# Altium footprint library Mechanical_3D.PcbLib: 98 footprints (part 5 of 7)
Each footprint in its own frame and in the unit in brackets; x right, y up, seen from the top. Pads: shape width x height; smd on the part's side, far side on the other; paste and mask are expansions set on the pad; w line width, h text height; cw(c..) or ccw(c..) is an arc to the next point about the centre after c.
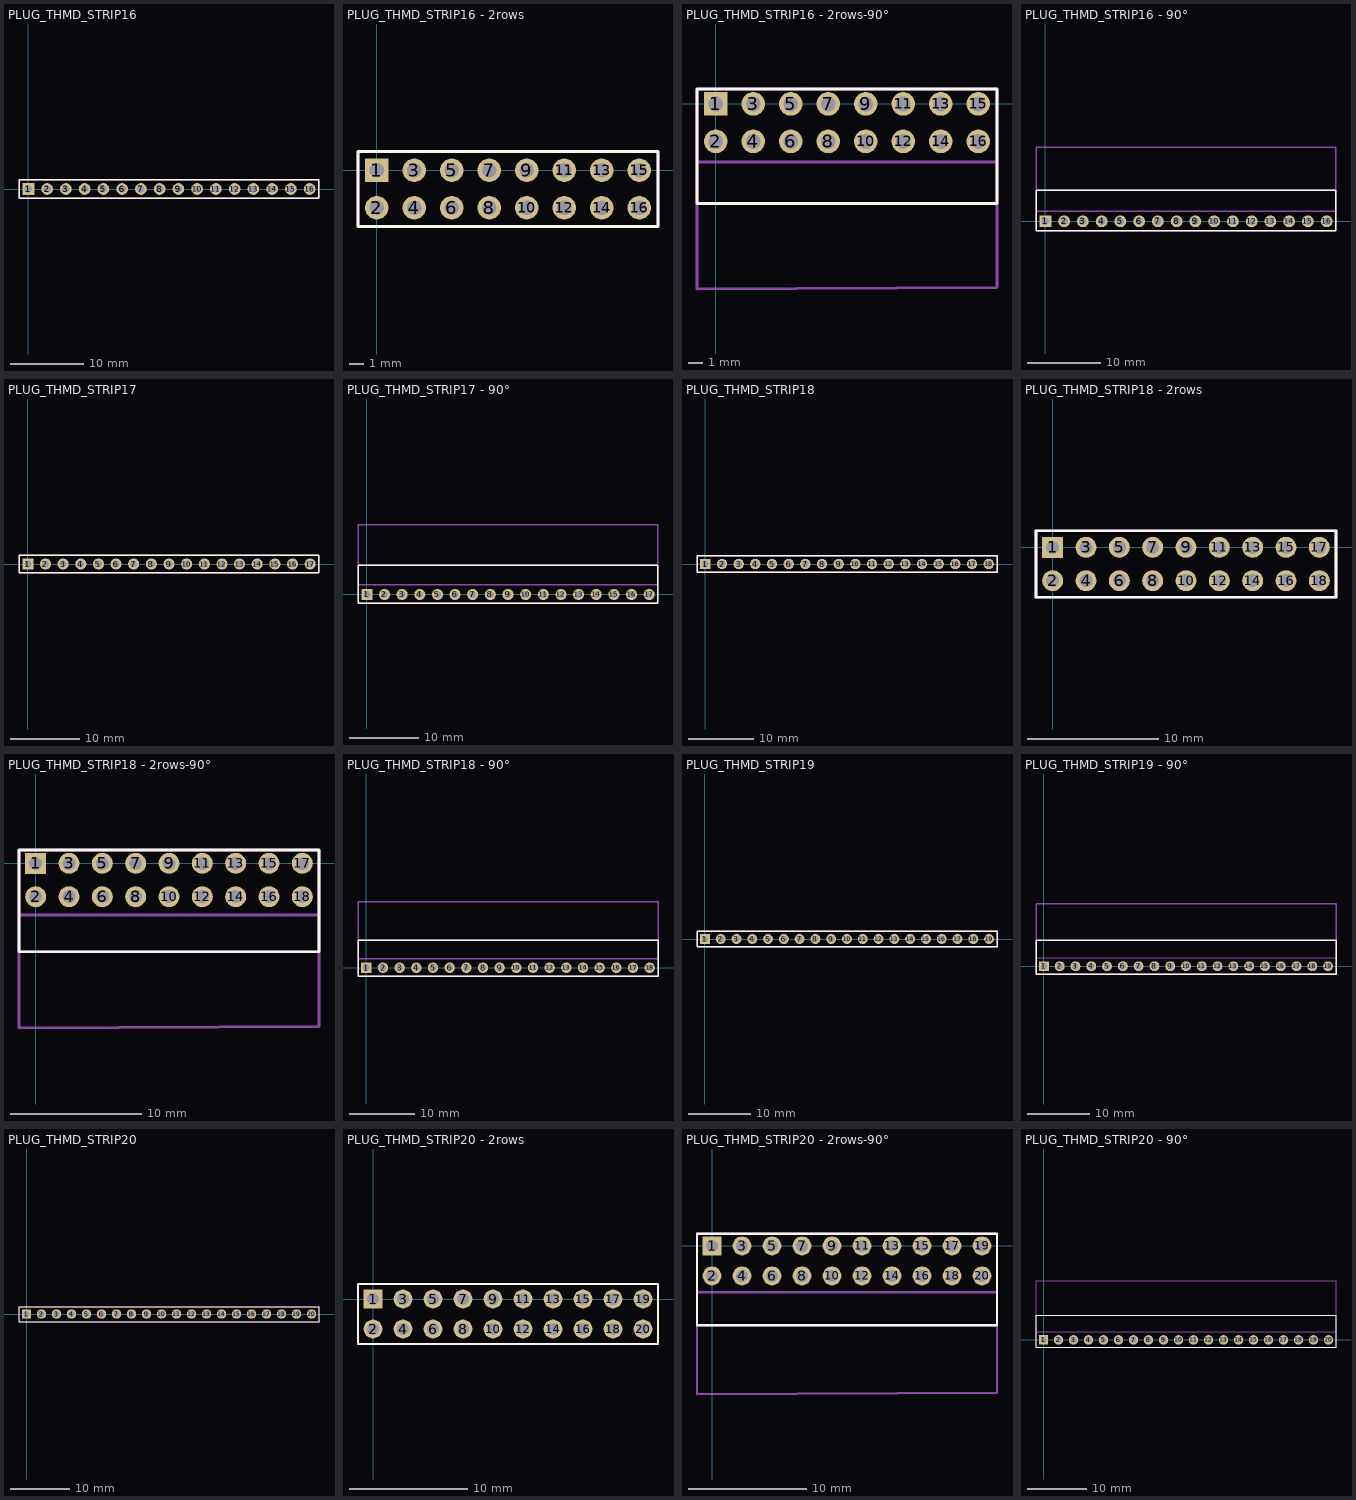
[diagram p4: the footprints below, top view; thin cyan lines are the x and y axes]

## PLUG_THMD_STRIP16 [mm]
pads (16):
  rect 1.6x1.6 / inner round 1.524 / far side rect 1.6x1.6 hole 1 paste+0 mask+0: 1(0,0)
  round 1.6 / inner round 1.524 / far side round 1.6 hole 1 paste+0 mask+0: 2(2.54,0) 3(5.08,0) 4(7.62,0) 5(10.16,0) 6(12.7,0) 7(15.24,0) 8(17.78,0) 9(20.32,0) 10(22.86,0) 11(25.4,0) 12(27.94,0) 13(30.48,0) 14(33.02,0) 15(35.56,0) 16(38.1,0)
Top Overlay:
  lines w0.203: -1.27,-1.27 -1.27,1.27 39.37,1.27 39.37,-1.27 -1.27,-1.27
Mechanical 13:
  lines w0.203: -1.27,-1.27 -1.27,1.27 39.37,1.27 39.37,-1.27 -1.27,-1.27
  text "1" at -2.156,-0.448 h0.95
3D body "Stripline_1.stp": height 8.57, standoff -2.97, extent 36.83,-1.27 39.37,1.27
3D body "Stripline_1.stp": height 8.57, standoff -2.97, extent 29.21,-1.27 31.75,1.27
3D body "Stripline_1.stp": height 8.57, standoff -2.97, extent 19.05,-1.27 21.59,1.27
3D body "Stripline_1.stp": height 8.57, standoff -2.97, extent 13.97,-1.27 16.51,1.27
3D body "Stripline_1.stp": height 8.57, standoff -2.97, extent 8.89,-1.27 11.43,1.27
3D body "Stripline_1.stp": height 8.57, standoff -2.97, extent 6.35,-1.27 8.89,1.27
3D body "Stripline_1.stp": height 8.57, standoff -2.97, extent 3.81,-1.27 6.35,1.27
3D body "Stripline_1.stp": height 8.57, standoff -2.97, extent 1.27,-1.27 3.81,1.27
3D body "Stripline_1.stp": height 8.57, standoff -2.97, extent -1.27,-1.27 1.27,1.27
3D body "Stripline_1.stp": height 8.57, standoff -2.97, extent 11.43,-1.27 13.97,1.27
3D body "Stripline_1.stp": height 8.57, standoff -2.97, extent 16.51,-1.27 19.05,1.27
3D body "Stripline_1.stp": height 8.57, standoff -2.97, extent 21.59,-1.27 24.13,1.27
3D body "Stripline_1.stp": height 8.57, standoff -2.97, extent 24.13,-1.27 26.67,1.27
3D body "Stripline_1.stp": height 8.57, standoff -2.97, extent 26.67,-1.27 29.21,1.27
3D body "Stripline_1.stp": height 8.57, standoff -2.97, extent 31.75,-1.27 34.29,1.27
3D body "Stripline_1.stp": height 8.57, standoff -2.97, extent 34.29,-1.27 36.83,1.27

## PLUG_THMD_STRIP16 - 2rows [mm]
pads (16):
  rect 1.6x1.6 / inner round 1.524 / far side rect 1.6x1.6 hole 1 paste+0 mask+0: 1(0,0)
  round 1.6 / inner round 1.524 / far side round 1.6 hole 1 paste+0 mask+0: 2(0,-2.54) 3(2.54,0) 4(2.54,-2.54) 5(5.08,0) 6(5.08,-2.54) 7(7.62,0) 8(7.62,-2.54) 9(10.16,0) 10(10.16,-2.54) 11(12.7,0) 12(12.7,-2.54) 13(15.24,0) 14(15.24,-2.54) 15(17.78,0) 16(17.78,-2.54)
Top Overlay:
  lines w0.203: -1.27,-3.81 -1.27,1.27 19.05,1.27 19.05,-3.81 -1.27,-3.81
Mechanical 13:
  lines w0.203: -1.27,-3.81 -1.27,1.27 19.05,1.27 19.05,-3.81 -1.27,-3.81
  text "1" at -2.156,-0.448 h0.95
3D body "Stripline_2row.stp": height 8.57, standoff -2.97, extent 16.51,-3.81 19.05,1.27
3D body "Stripline_2row.stp": height 8.57, standoff -2.97, extent 11.43,-3.81 13.97,1.27
3D body "Stripline_2row.stp": height 8.57, standoff -2.97, extent 8.89,-3.81 11.43,1.27
3D body "Stripline_2row.stp": height 8.57, standoff -2.97, extent 3.81,-3.81 6.35,1.27
3D body "Stripline_2row.stp": height 8.57, standoff -2.97, extent -1.27,-3.81 1.27,1.27
3D body "Stripline_2row.stp": height 8.57, standoff -2.97, extent 1.27,-3.81 3.81,1.27
3D body "Stripline_2row.stp": height 8.57, standoff -2.97, extent 6.35,-3.81 8.89,1.27
3D body "Stripline_2row.stp": height 8.57, standoff -2.97, extent 13.97,-3.81 16.51,1.27

## PLUG_THMD_STRIP16 - 2rows-90° [mm]
pads (16):
  rect 1.6x1.6 / inner round 1.524 / far side rect 1.6x1.6 hole 1 paste+0 mask+0: 1(0,0)
  round 1.6 / inner round 1.524 / far side round 1.6 hole 1 paste+0 mask+0: 2(0,-2.54) 3(2.54,0) 4(2.54,-2.54) 5(5.08,0) 6(5.08,-2.54) 7(7.62,0) 8(7.62,-2.54) 9(10.16,0) 10(10.16,-2.54) 11(12.7,0) 12(12.7,-2.54) 13(15.24,0) 14(15.24,-2.54) 15(17.78,0) 16(17.78,-2.54)
Top Overlay:
  lines w0.203: -1.27,-6.731 19.05,-6.731 19.05,1.016 -1.27,1.016 -1.27,-6.731
Mechanical 13:
  lines w0.2: -1.27,-6.731 -1.27,-3.937 19.05,-3.937 19.05,-6.731 -1.27,-6.731
  text "1" at -2.156,-0.448 h0.95
Mechanical 15:
  lines w0.203: -1.27,-12.548 19.05,-12.446 19.05,1.016 -1.27,1.016 -1.27,-12.548
3D body "Stripline_2row90_deg.stp": height 5.14, standoff -2.94, extent 16.51,-12.57 19.05,0.33
3D body "Stripline_2row90_deg.stp": height 5.14, standoff -2.94, extent 13.97,-12.57 16.51,0.33
3D body "Stripline_2row90_deg.stp": height 5.14, standoff -2.94, extent 11.43,-12.57 13.97,0.33
3D body "Stripline_2row90_deg.stp": height 5.14, standoff -2.94, extent 6.35,-12.57 8.89,0.33
3D body "Stripline_2row90_deg.stp": height 5.14, standoff -2.94, extent -1.27,-12.57 1.27,0.33
3D body "Stripline_2row90_deg.stp": height 5.14, standoff -2.94, extent 1.27,-12.57 3.81,0.33
3D body "Stripline_2row90_deg.stp": height 5.14, standoff -2.94, extent 3.81,-12.57 6.35,0.33
3D body "Stripline_2row90_deg.stp": height 5.14, standoff -2.94, extent 8.89,-12.57 11.43,0.33

## PLUG_THMD_STRIP16 - 90° [mm]
pads (16):
  rect 1.6x1.6 / inner round 1.524 / far side rect 1.6x1.6 hole 1 paste+0 mask+0: 1(0,0)
  round 1.6 / inner round 1.524 / far side round 1.6 hole 1 paste+0 mask+0: 2(2.54,0) 3(5.08,0) 4(7.62,0) 5(10.16,0) 6(12.7,0) 7(15.24,0) 8(17.78,0) 9(20.32,0) 10(22.86,0) 11(25.4,0) 12(27.94,0) 13(30.48,0) 14(33.02,0) 15(35.56,0) 16(38.1,0)
Top Overlay:
  lines w0.203: -1.27,1.27 -1.27,-1.27 ; 3.81,-1.27 -1.27,-1.27 ; -1.27,-1.27 -1.27,4.191 39.37,4.191 39.37,-1.27 -1.27,-1.27
Mechanical 13:
  lines w0.2: -1.27,1.397 39.37,1.397 39.37,4.191 -1.27,4.191 -1.27,1.397
  text "1" at -2.156,-0.448 h0.95
Mechanical 15:
  lines w0.203: -1.27,-1.27 -1.27,10.033 39.37,10.033 39.37,-1.27 -1.27,-1.27
3D body "Stripline_1row90_deg.stp": height 2.54, standoff -3, extent 36.83,-0.354 39.37,10.006
3D body "Stripline_1row90_deg.stp": height 2.54, standoff -3, extent 34.29,-0.354 36.83,10.006
3D body "Stripline_1row90_deg.stp": height 2.54, standoff -3, extent 24.13,-0.354 26.67,10.006
3D body "Stripline_1row90_deg.stp": height 2.54, standoff -3, extent 16.51,-0.354 19.05,10.006
3D body "Stripline_1row90_deg.stp": height 2.54, standoff -3, extent 13.97,-0.354 16.51,10.006
3D body "Stripline_1row90_deg.stp": height 2.54, standoff -3, extent 11.43,-0.354 13.97,10.006
3D body "Stripline_1row90_deg.stp": height 2.54, standoff -3, extent 8.89,-0.354 11.43,10.006
3D body "Stripline_1row90_deg.stp": height 2.54, standoff -3, extent 6.35,-0.354 8.89,10.006
3D body "Stripline_1row90_deg.stp": height 2.54, standoff -3, extent 3.81,-0.354 6.35,10.006
3D body "Stripline_1row90_deg.stp": height 2.54, standoff -3, extent 1.27,-0.354 3.81,10.006
3D body "Stripline_1row90_deg.stp": height 2.54, standoff -3, extent -1.27,-0.354 1.27,10.006
3D body "Stripline_1row90_deg.stp": height 2.54, standoff -3, extent 19.05,-0.354 21.59,10.006
3D body "Stripline_1row90_deg.stp": height 2.54, standoff -3, extent 21.59,-0.354 24.13,10.006
3D body "Stripline_1row90_deg.stp": height 2.54, standoff -3, extent 26.67,-0.354 29.21,10.006
3D body "Stripline_1row90_deg.stp": height 2.54, standoff -3, extent 29.21,-0.354 31.75,10.006
3D body "Stripline_1row90_deg.stp": height 2.54, standoff -3, extent 31.75,-0.354 34.29,10.006

## PLUG_THMD_STRIP17 [mm]
pads (17):
  rect 1.6x1.6 / inner round 1.524 / far side rect 1.6x1.6 hole 1 paste+0 mask+0: 1(0,0)
  round 1.6 / inner round 1.524 / far side round 1.6 hole 1 paste+0 mask+0: 2(2.54,0) 3(5.08,0) 4(7.62,0) 5(10.16,0) 6(12.7,0) 7(15.24,0) 8(17.78,0) 9(20.32,0) 10(22.86,0) 11(25.4,0) 12(27.94,0) 13(30.48,0) 14(33.02,0) 15(35.56,0) 16(38.1,0) 17(40.64,0)
Top Overlay:
  lines w0.203: -1.27,-1.27 -1.27,1.27 41.91,1.27 41.91,-1.27 -1.27,-1.27
Mechanical 13:
  lines w0.203: -1.27,-1.27 -1.27,1.27 41.91,1.27 41.91,-1.27 -1.27,-1.27
  text "1" at -2.156,-0.448 h0.95
3D body "Stripline_1.stp": height 8.57, standoff -2.97, extent 39.37,-1.27 41.91,1.27
3D body "Stripline_1.stp": height 8.57, standoff -2.97, extent 36.83,-1.27 39.37,1.27
3D body "Stripline_1.stp": height 8.57, standoff -2.97, extent 29.21,-1.27 31.75,1.27
3D body "Stripline_1.stp": height 8.57, standoff -2.97, extent 19.05,-1.27 21.59,1.27
3D body "Stripline_1.stp": height 8.57, standoff -2.97, extent 13.97,-1.27 16.51,1.27
3D body "Stripline_1.stp": height 8.57, standoff -2.97, extent 8.89,-1.27 11.43,1.27
3D body "Stripline_1.stp": height 8.57, standoff -2.97, extent 6.35,-1.27 8.89,1.27
3D body "Stripline_1.stp": height 8.57, standoff -2.97, extent 3.81,-1.27 6.35,1.27
3D body "Stripline_1.stp": height 8.57, standoff -2.97, extent 1.27,-1.27 3.81,1.27
3D body "Stripline_1.stp": height 8.57, standoff -2.97, extent -1.27,-1.27 1.27,1.27
3D body "Stripline_1.stp": height 8.57, standoff -2.97, extent 11.43,-1.27 13.97,1.27
3D body "Stripline_1.stp": height 8.57, standoff -2.97, extent 16.51,-1.27 19.05,1.27
3D body "Stripline_1.stp": height 8.57, standoff -2.97, extent 21.59,-1.27 24.13,1.27
3D body "Stripline_1.stp": height 8.57, standoff -2.97, extent 24.13,-1.27 26.67,1.27
3D body "Stripline_1.stp": height 8.57, standoff -2.97, extent 26.67,-1.27 29.21,1.27
3D body "Stripline_1.stp": height 8.57, standoff -2.97, extent 31.75,-1.27 34.29,1.27
3D body "Stripline_1.stp": height 8.57, standoff -2.97, extent 34.29,-1.27 36.83,1.27

## PLUG_THMD_STRIP17 - 90° [mm]
pads (17):
  rect 1.6x1.6 / inner round 1.524 / far side rect 1.6x1.6 hole 1 paste+0 mask+0: 1(0,0)
  round 1.6 / inner round 1.524 / far side round 1.6 hole 1 paste+0 mask+0: 2(2.54,0) 3(5.08,0) 4(7.62,0) 5(10.16,0) 6(12.7,0) 7(15.24,0) 8(17.78,0) 9(20.32,0) 10(22.86,0) 11(25.4,0) 12(27.94,0) 13(30.48,0) 14(33.02,0) 15(35.56,0) 16(38.1,0) 17(40.64,0)
Top Overlay:
  lines w0.203: -1.27,1.27 -1.27,-1.27 ; 3.81,-1.27 -1.27,-1.27 ; -1.27,-1.27 -1.27,4.191 41.91,4.191 41.91,-1.27 -1.27,-1.27
Mechanical 13:
  lines w0.2: -1.27,1.397 41.91,1.397 41.91,4.191 -1.27,4.191 -1.27,1.397
  text "1" at -2.156,-0.448 h0.95
Mechanical 15:
  lines w0.203: -1.27,-1.27 -1.27,10.033 41.91,10.033 41.91,-1.27 -1.27,-1.27
3D body "Stripline_1row90_deg.stp": height 2.54, standoff -3, extent 39.37,-0.354 41.91,10.006
3D body "Stripline_1row90_deg.stp": height 2.54, standoff -3, extent 36.83,-0.354 39.37,10.006
3D body "Stripline_1row90_deg.stp": height 2.54, standoff -3, extent 34.29,-0.354 36.83,10.006
3D body "Stripline_1row90_deg.stp": height 2.54, standoff -3, extent 24.13,-0.354 26.67,10.006
3D body "Stripline_1row90_deg.stp": height 2.54, standoff -3, extent 16.51,-0.354 19.05,10.006
3D body "Stripline_1row90_deg.stp": height 2.54, standoff -3, extent 13.97,-0.354 16.51,10.006
3D body "Stripline_1row90_deg.stp": height 2.54, standoff -3, extent 11.43,-0.354 13.97,10.006
3D body "Stripline_1row90_deg.stp": height 2.54, standoff -3, extent 8.89,-0.354 11.43,10.006
3D body "Stripline_1row90_deg.stp": height 2.54, standoff -3, extent 6.35,-0.354 8.89,10.006
3D body "Stripline_1row90_deg.stp": height 2.54, standoff -3, extent 3.81,-0.354 6.35,10.006
3D body "Stripline_1row90_deg.stp": height 2.54, standoff -3, extent 1.27,-0.354 3.81,10.006
3D body "Stripline_1row90_deg.stp": height 2.54, standoff -3, extent -1.27,-0.354 1.27,10.006
3D body "Stripline_1row90_deg.stp": height 2.54, standoff -3, extent 19.05,-0.354 21.59,10.006
3D body "Stripline_1row90_deg.stp": height 2.54, standoff -3, extent 21.59,-0.354 24.13,10.006
3D body "Stripline_1row90_deg.stp": height 2.54, standoff -3, extent 26.67,-0.354 29.21,10.006
3D body "Stripline_1row90_deg.stp": height 2.54, standoff -3, extent 29.21,-0.354 31.75,10.006
3D body "Stripline_1row90_deg.stp": height 2.54, standoff -3, extent 31.75,-0.354 34.29,10.006

## PLUG_THMD_STRIP18 [mm]
pads (18):
  rect 1.6x1.6 / inner round 1.524 / far side rect 1.6x1.6 hole 1 paste+0 mask+0: 1(0,0)
  round 1.6 / inner round 1.524 / far side round 1.6 hole 1 paste+0 mask+0: 2(2.54,0) 3(5.08,0) 4(7.62,0) 5(10.16,0) 6(12.7,0) 7(15.24,0) 8(17.78,0) 9(20.32,0) 10(22.86,0) 11(25.4,0) 12(27.94,0) 13(30.48,0) 14(33.02,0) 15(35.56,0) 16(38.1,0) 17(40.64,0) 18(43.18,0)
Top Overlay:
  lines w0.203: -1.27,-1.27 44.45,-1.27 44.45,1.27 -1.27,1.27 -1.27,-1.27
Mechanical 13:
  lines w0.203: -1.27,-1.27 44.45,-1.27 44.45,1.27 -1.27,1.27 -1.27,-1.27
  text "1" at -2.156,-0.448 h0.95
3D body "Stripline_1.stp": height 8.57, standoff -2.97, extent 41.91,-1.27 44.45,1.27
3D body "Stripline_1.stp": height 8.57, standoff -2.97, extent 34.29,-1.27 36.83,1.27
3D body "Stripline_1.stp": height 8.57, standoff -2.97, extent 31.75,-1.27 34.29,1.27
3D body "Stripline_1.stp": height 8.57, standoff -2.97, extent 26.67,-1.27 29.21,1.27
3D body "Stripline_1.stp": height 8.57, standoff -2.97, extent 24.13,-1.27 26.67,1.27
3D body "Stripline_1.stp": height 8.57, standoff -2.97, extent 21.59,-1.27 24.13,1.27
3D body "Stripline_1.stp": height 8.57, standoff -2.97, extent 16.51,-1.27 19.05,1.27
3D body "Stripline_1.stp": height 8.57, standoff -2.97, extent 11.43,-1.27 13.97,1.27
3D body "Stripline_1.stp": height 8.57, standoff -2.97, extent -1.27,-1.27 1.27,1.27
3D body "Stripline_1.stp": height 8.57, standoff -2.97, extent 1.27,-1.27 3.81,1.27
3D body "Stripline_1.stp": height 8.57, standoff -2.97, extent 3.81,-1.27 6.35,1.27
3D body "Stripline_1.stp": height 8.57, standoff -2.97, extent 6.35,-1.27 8.89,1.27
3D body "Stripline_1.stp": height 8.57, standoff -2.97, extent 8.89,-1.27 11.43,1.27
3D body "Stripline_1.stp": height 8.57, standoff -2.97, extent 13.97,-1.27 16.51,1.27
3D body "Stripline_1.stp": height 8.57, standoff -2.97, extent 19.05,-1.27 21.59,1.27
3D body "Stripline_1.stp": height 8.57, standoff -2.97, extent 29.21,-1.27 31.75,1.27
3D body "Stripline_1.stp": height 8.57, standoff -2.97, extent 36.83,-1.27 39.37,1.27
3D body "Stripline_1.stp": height 8.57, standoff -2.97, extent 39.37,-1.27 41.91,1.27

## PLUG_THMD_STRIP18 - 2rows [mm]
pads (18):
  rect 1.6x1.6 / inner round 1.524 / far side rect 1.6x1.6 hole 1 paste+0 mask+0: 1(0,0)
  round 1.6 / inner round 1.524 / far side round 1.6 hole 1 paste+0 mask+0: 2(0,-2.54) 3(2.54,0) 4(2.54,-2.54) 5(5.08,0) 6(5.08,-2.54) 7(7.62,0) 8(7.62,-2.54) 9(10.16,0) 10(10.16,-2.54) 11(12.7,0) 12(12.7,-2.54) 13(15.24,0) 14(15.24,-2.54) 15(17.78,0) 16(17.78,-2.54) 17(20.32,0) 18(20.32,-2.54)
Top Overlay:
  lines w0.203: -1.27,-3.81 21.59,-3.81 21.59,1.27 -1.27,1.27 -1.27,-3.81
Mechanical 13:
  lines w0.203: -1.27,-3.81 21.59,-3.81 21.59,1.27 -1.27,1.27 -1.27,-3.81
  text "1" at -2.156,-0.448 h0.95
3D body "Stripline_2row.stp": height 8.57, standoff -2.97, extent 13.97,-3.81 16.51,1.27
3D body "Stripline_2row.stp": height 8.57, standoff -2.97, extent 6.35,-3.81 8.89,1.27
3D body "Stripline_2row.stp": height 8.57, standoff -2.97, extent 1.27,-3.81 3.81,1.27
3D body "Stripline_2row.stp": height 8.57, standoff -2.97, extent -1.27,-3.81 1.27,1.27
3D body "Stripline_2row.stp": height 8.57, standoff -2.97, extent 3.81,-3.81 6.35,1.27
3D body "Stripline_2row.stp": height 8.57, standoff -2.97, extent 8.89,-3.81 11.43,1.27
3D body "Stripline_2row.stp": height 8.57, standoff -2.97, extent 11.43,-3.81 13.97,1.27
3D body "Stripline_2row.stp": height 8.57, standoff -2.97, extent 16.51,-3.81 19.05,1.27
3D body "Stripline_2row.stp": height 8.57, standoff -2.97, extent 19.05,-3.81 21.59,1.27

## PLUG_THMD_STRIP18 - 2rows-90° [mm]
pads (18):
  rect 1.6x1.6 / inner round 1.524 / far side rect 1.6x1.6 hole 1 paste+0 mask+0: 1(0,0)
  round 1.6 / inner round 1.524 / far side round 1.6 hole 1 paste+0 mask+0: 2(0,-2.54) 3(2.54,0) 4(2.54,-2.54) 5(5.08,0) 6(5.08,-2.54) 7(7.62,0) 8(7.62,-2.54) 9(10.16,0) 10(10.16,-2.54) 11(12.7,0) 12(12.7,-2.54) 13(15.24,0) 14(15.24,-2.54) 15(17.78,0) 16(17.78,-2.54) 17(20.32,0) 18(20.32,-2.54)
Top Overlay:
  lines w0.203: -1.27,-6.731 21.59,-6.731 21.59,1.016 -1.27,1.016 -1.27,-6.731
Mechanical 13:
  lines w0.2: -1.27,-6.731 21.59,-6.731 21.59,-3.937 -1.27,-3.937 -1.27,-6.731
  text "1" at -2.156,-0.448 h0.95
Mechanical 15:
  lines w0.203: -1.27,-12.548 21.59,-12.433 21.59,1.016 -1.27,1.016 -1.27,-12.548
3D body "Stripline_2row90_deg.stp": height 5.14, standoff -2.94, extent 16.51,-12.57 19.05,0.33
3D body "Stripline_2row90_deg.stp": height 5.14, standoff -2.94, extent 13.97,-12.57 16.51,0.33
3D body "Stripline_2row90_deg.stp": height 5.14, standoff -2.94, extent 11.43,-12.57 13.97,0.33
3D body "Stripline_2row90_deg.stp": height 5.14, standoff -2.94, extent 6.35,-12.57 8.89,0.33
3D body "Stripline_2row90_deg.stp": height 5.14, standoff -2.94, extent -1.27,-12.57 1.27,0.33
3D body "Stripline_2row90_deg.stp": height 5.14, standoff -2.94, extent 1.27,-12.57 3.81,0.33
3D body "Stripline_2row90_deg.stp": height 5.14, standoff -2.94, extent 3.81,-12.57 6.35,0.33
3D body "Stripline_2row90_deg.stp": height 5.14, standoff -2.94, extent 8.89,-12.57 11.43,0.33
3D body "Stripline_2row90_deg.stp": height 5.14, standoff -2.94, extent 19.05,-12.57 21.59,0.33

## PLUG_THMD_STRIP18 - 90° [mm]
pads (18):
  rect 1.6x1.6 / inner round 1.524 / far side rect 1.6x1.6 hole 1 paste+0 mask+0: 1(0,0)
  round 1.6 / inner round 1.524 / far side round 1.6 hole 1 paste+0 mask+0: 2(2.54,0) 3(5.08,0) 4(7.62,0) 5(10.16,0) 6(12.7,0) 7(15.24,0) 8(17.78,0) 9(20.32,0) 10(22.86,0) 11(25.4,0) 12(27.94,0) 13(30.48,0) 14(33.02,0) 15(35.56,0) 16(38.1,0) 17(40.64,0) 18(43.18,0)
Top Overlay:
  lines w0.203: -1.27,1.27 -1.27,-1.27 ; 3.81,-1.27 -1.27,-1.27 ; -1.27,-1.27 -1.27,4.191 44.45,4.191 44.45,-1.27 -1.27,-1.27
Mechanical 13:
  lines w0.2: -1.27,1.397 44.45,1.397 44.45,4.191 -1.27,4.191 -1.27,1.397
  text "1" at -2.156,-0.448 h0.95
Mechanical 15:
  lines w0.203: -1.27,-1.27 -1.27,10.033 44.45,10.033 44.45,-1.27 -1.27,-1.27
3D body "Stripline_1row90_deg.stp": height 2.54, standoff -3, extent 39.37,-0.354 41.91,10.006
3D body "Stripline_1row90_deg.stp": height 2.54, standoff -3, extent 36.83,-0.354 39.37,10.006
3D body "Stripline_1row90_deg.stp": height 2.54, standoff -3, extent 34.29,-0.354 36.83,10.006
3D body "Stripline_1row90_deg.stp": height 2.54, standoff -3, extent 24.13,-0.354 26.67,10.006
3D body "Stripline_1row90_deg.stp": height 2.54, standoff -3, extent 16.51,-0.354 19.05,10.006
3D body "Stripline_1row90_deg.stp": height 2.54, standoff -3, extent 13.97,-0.354 16.51,10.006
3D body "Stripline_1row90_deg.stp": height 2.54, standoff -3, extent 11.43,-0.354 13.97,10.006
3D body "Stripline_1row90_deg.stp": height 2.54, standoff -3, extent 8.89,-0.354 11.43,10.006
3D body "Stripline_1row90_deg.stp": height 2.54, standoff -3, extent 6.35,-0.354 8.89,10.006
3D body "Stripline_1row90_deg.stp": height 2.54, standoff -3, extent 3.81,-0.354 6.35,10.006
3D body "Stripline_1row90_deg.stp": height 2.54, standoff -3, extent 1.27,-0.354 3.81,10.006
3D body "Stripline_1row90_deg.stp": height 2.54, standoff -3, extent -1.27,-0.354 1.27,10.006
3D body "Stripline_1row90_deg.stp": height 2.54, standoff -3, extent 19.05,-0.354 21.59,10.006
3D body "Stripline_1row90_deg.stp": height 2.54, standoff -3, extent 21.59,-0.354 24.13,10.006
3D body "Stripline_1row90_deg.stp": height 2.54, standoff -3, extent 26.67,-0.354 29.21,10.006
3D body "Stripline_1row90_deg.stp": height 2.54, standoff -3, extent 29.21,-0.354 31.75,10.006
3D body "Stripline_1row90_deg.stp": height 2.54, standoff -3, extent 31.75,-0.354 34.29,10.006
3D body "Stripline_1row90_deg.stp": height 2.54, standoff -3, extent 41.91,-0.354 44.45,10.006

## PLUG_THMD_STRIP19 [mm]
pads (19):
  rect 1.6x1.6 / inner round 1.524 / far side rect 1.6x1.6 hole 1 paste+0 mask+0: 1(0,0)
  round 1.6 / inner round 1.524 / far side round 1.6 hole 1 paste+0 mask+0: 2(2.54,0) 3(5.08,0) 4(7.62,0) 5(10.16,0) 6(12.7,0) 7(15.24,0) 8(17.78,0) 9(20.32,0) 10(22.86,0) 11(25.4,0) 12(27.94,0) 13(30.48,0) 14(33.02,0) 15(35.56,0) 16(38.1,0) 17(40.64,0) 18(43.18,0) 19(45.72,0)
Top Overlay:
  lines w0.203: -1.27,-1.27 -1.27,1.27 46.99,1.27 46.99,-1.27 -1.27,-1.27
Mechanical 13:
  lines w0.203: -1.27,-1.27 -1.27,1.27 46.99,1.27 46.99,-1.27 -1.27,-1.27
  text "1" at -2.156,-0.448 h0.95
3D body "Stripline_1.stp": height 8.57, standoff -2.97, extent 44.45,-1.27 46.99,1.27
3D body "Stripline_1.stp": height 8.57, standoff -2.97, extent 39.37,-1.27 41.91,1.27
3D body "Stripline_1.stp": height 8.57, standoff -2.97, extent 36.83,-1.27 39.37,1.27
3D body "Stripline_1.stp": height 8.57, standoff -2.97, extent 29.21,-1.27 31.75,1.27
3D body "Stripline_1.stp": height 8.57, standoff -2.97, extent 19.05,-1.27 21.59,1.27
3D body "Stripline_1.stp": height 8.57, standoff -2.97, extent 13.97,-1.27 16.51,1.27
3D body "Stripline_1.stp": height 8.57, standoff -2.97, extent 8.89,-1.27 11.43,1.27
3D body "Stripline_1.stp": height 8.57, standoff -2.97, extent 6.35,-1.27 8.89,1.27
3D body "Stripline_1.stp": height 8.57, standoff -2.97, extent 3.81,-1.27 6.35,1.27
3D body "Stripline_1.stp": height 8.57, standoff -2.97, extent 1.27,-1.27 3.81,1.27
3D body "Stripline_1.stp": height 8.57, standoff -2.97, extent -1.27,-1.27 1.27,1.27
3D body "Stripline_1.stp": height 8.57, standoff -2.97, extent 11.43,-1.27 13.97,1.27
3D body "Stripline_1.stp": height 8.57, standoff -2.97, extent 16.51,-1.27 19.05,1.27
3D body "Stripline_1.stp": height 8.57, standoff -2.97, extent 21.59,-1.27 24.13,1.27
3D body "Stripline_1.stp": height 8.57, standoff -2.97, extent 24.13,-1.27 26.67,1.27
3D body "Stripline_1.stp": height 8.57, standoff -2.97, extent 26.67,-1.27 29.21,1.27
3D body "Stripline_1.stp": height 8.57, standoff -2.97, extent 31.75,-1.27 34.29,1.27
3D body "Stripline_1.stp": height 8.57, standoff -2.97, extent 34.29,-1.27 36.83,1.27
3D body "Stripline_1.stp": height 8.57, standoff -2.97, extent 41.91,-1.27 44.45,1.27

## PLUG_THMD_STRIP19 - 90° [mm]
pads (19):
  rect 1.6x1.6 / inner round 1.524 / far side rect 1.6x1.6 hole 1 paste+0 mask+0: 1(0,0)
  round 1.6 / inner round 1.524 / far side round 1.6 hole 1 paste+0 mask+0: 2(2.54,0) 3(5.08,0) 4(7.62,0) 5(10.16,0) 6(12.7,0) 7(15.24,0) 8(17.78,0) 9(20.32,0) 10(22.86,0) 11(25.4,0) 12(27.94,0) 13(30.48,0) 14(33.02,0) 15(35.56,0) 16(38.1,0) 17(40.64,0) 18(43.18,0) 19(45.72,0)
Top Overlay:
  lines w0.203: -1.27,1.27 -1.27,-1.27 ; 3.81,-1.27 -1.27,-1.27 ; -1.27,-1.27 -1.27,4.191 46.99,4.191 46.99,-1.27 -1.27,-1.27
Mechanical 13:
  lines w0.2: -1.27,1.397 -1.27,4.191 46.99,4.191 46.99,1.397 -1.27,1.397
  text "1" at -2.156,-0.448 h0.95
Mechanical 15:
  lines w0.203: -1.27,-1.27 -1.27,10.033 46.99,10.033 46.99,-1.27 -1.27,-1.27
3D body "Stripline_1row90_deg.stp": height 2.54, standoff -3, extent 44.45,-0.354 46.99,10.006
3D body "Stripline_1row90_deg.stp": height 2.54, standoff -3, extent 39.37,-0.354 41.91,10.006
3D body "Stripline_1row90_deg.stp": height 2.54, standoff -3, extent 36.83,-0.354 39.37,10.006
3D body "Stripline_1row90_deg.stp": height 2.54, standoff -3, extent 34.29,-0.354 36.83,10.006
3D body "Stripline_1row90_deg.stp": height 2.54, standoff -3, extent 24.13,-0.354 26.67,10.006
3D body "Stripline_1row90_deg.stp": height 2.54, standoff -3, extent 16.51,-0.354 19.05,10.006
3D body "Stripline_1row90_deg.stp": height 2.54, standoff -3, extent 13.97,-0.354 16.51,10.006
3D body "Stripline_1row90_deg.stp": height 2.54, standoff -3, extent 11.43,-0.354 13.97,10.006
3D body "Stripline_1row90_deg.stp": height 2.54, standoff -3, extent 8.89,-0.354 11.43,10.006
3D body "Stripline_1row90_deg.stp": height 2.54, standoff -3, extent 6.35,-0.354 8.89,10.006
3D body "Stripline_1row90_deg.stp": height 2.54, standoff -3, extent 3.81,-0.354 6.35,10.006
3D body "Stripline_1row90_deg.stp": height 2.54, standoff -3, extent 1.27,-0.354 3.81,10.006
3D body "Stripline_1row90_deg.stp": height 2.54, standoff -3, extent -1.27,-0.354 1.27,10.006
3D body "Stripline_1row90_deg.stp": height 2.54, standoff -3, extent 19.05,-0.354 21.59,10.006
3D body "Stripline_1row90_deg.stp": height 2.54, standoff -3, extent 21.59,-0.354 24.13,10.006
3D body "Stripline_1row90_deg.stp": height 2.54, standoff -3, extent 26.67,-0.354 29.21,10.006
3D body "Stripline_1row90_deg.stp": height 2.54, standoff -3, extent 29.21,-0.354 31.75,10.006
3D body "Stripline_1row90_deg.stp": height 2.54, standoff -3, extent 31.75,-0.354 34.29,10.006
3D body "Stripline_1row90_deg.stp": height 2.54, standoff -3, extent 41.91,-0.354 44.45,10.006

## PLUG_THMD_STRIP20 [mm]
pads (20):
  rect 1.6x1.6 / inner round 1.524 / far side rect 1.6x1.6 hole 1 paste+0 mask+0: 1(0,0)
  round 1.6 / inner round 1.524 / far side round 1.6 hole 1 paste+0 mask+0: 2(2.54,0) 3(5.08,0) 4(7.62,0) 5(10.16,0) 6(12.7,0) 7(15.24,0) 8(17.78,0) 9(20.32,0) 10(22.86,0) 11(25.4,0) 12(27.94,0) 13(30.48,0) 14(33.02,0) 15(35.56,0) 16(38.1,0) 17(40.64,0) 18(43.18,0) 19(45.72,0) 20(48.26,0)
Top Overlay:
  lines w0.203: -1.27,-1.27 49.53,-1.27 49.53,1.27 -1.27,1.27 -1.27,-1.27
Mechanical 13:
  lines w0.203: -1.27,-1.27 49.53,-1.27 49.53,1.27 -1.27,1.27 -1.27,-1.27
  text "1" at -2.156,-0.448 h0.95
3D body "Stripline_1.stp": height 8.57, standoff -2.97, extent 41.91,-1.27 44.45,1.27
3D body "Stripline_1.stp": height 8.57, standoff -2.97, extent 34.29,-1.27 36.83,1.27
3D body "Stripline_1.stp": height 8.57, standoff -2.97, extent 31.75,-1.27 34.29,1.27
3D body "Stripline_1.stp": height 8.57, standoff -2.97, extent 26.67,-1.27 29.21,1.27
3D body "Stripline_1.stp": height 8.57, standoff -2.97, extent 24.13,-1.27 26.67,1.27
3D body "Stripline_1.stp": height 8.57, standoff -2.97, extent 21.59,-1.27 24.13,1.27
3D body "Stripline_1.stp": height 8.57, standoff -2.97, extent 16.51,-1.27 19.05,1.27
3D body "Stripline_1.stp": height 8.57, standoff -2.97, extent 11.43,-1.27 13.97,1.27
3D body "Stripline_1.stp": height 8.57, standoff -2.97, extent -1.27,-1.27 1.27,1.27
3D body "Stripline_1.stp": height 8.57, standoff -2.97, extent 1.27,-1.27 3.81,1.27
3D body "Stripline_1.stp": height 8.57, standoff -2.97, extent 3.81,-1.27 6.35,1.27
3D body "Stripline_1.stp": height 8.57, standoff -2.97, extent 6.35,-1.27 8.89,1.27
3D body "Stripline_1.stp": height 8.57, standoff -2.97, extent 8.89,-1.27 11.43,1.27
3D body "Stripline_1.stp": height 8.57, standoff -2.97, extent 13.97,-1.27 16.51,1.27
3D body "Stripline_1.stp": height 8.57, standoff -2.97, extent 19.05,-1.27 21.59,1.27
3D body "Stripline_1.stp": height 8.57, standoff -2.97, extent 29.21,-1.27 31.75,1.27
3D body "Stripline_1.stp": height 8.57, standoff -2.97, extent 36.83,-1.27 39.37,1.27
3D body "Stripline_1.stp": height 8.57, standoff -2.97, extent 39.37,-1.27 41.91,1.27
3D body "Stripline_1.stp": height 8.57, standoff -2.97, extent 44.45,-1.27 46.99,1.27
3D body "Stripline_1.stp": height 8.57, standoff -2.97, extent 46.99,-1.27 49.53,1.27

## PLUG_THMD_STRIP20 - 2rows [mm]
pads (20):
  rect 1.6x1.6 / inner round 1.524 / far side rect 1.6x1.6 hole 1 paste+0 mask+0: 1(0,0)
  round 1.6 / inner round 1.524 / far side round 1.6 hole 1 paste+0 mask+0: 2(0,-2.54) 3(2.54,0) 4(2.54,-2.54) 5(5.08,0) 6(5.08,-2.54) 7(7.62,0) 8(7.62,-2.54) 9(10.16,0) 10(10.16,-2.54) 11(12.7,0) 12(12.7,-2.54) 13(15.24,0) 14(15.24,-2.54) 15(17.78,0) 16(17.78,-2.54) 17(20.32,0) 18(20.32,-2.54) 19(22.86,0) 20(22.86,-2.54)
Top Overlay:
  lines w0.203: -1.27,-3.81 -1.27,1.27 24.13,1.27 24.13,-3.81 -1.27,-3.81
Mechanical 13:
  lines w0.203: -1.27,-3.81 -1.27,1.27 24.13,1.27 24.13,-3.81 -1.27,-3.81
  text "1" at -2.156,-0.448 h0.95
3D body "Stripline_2row.stp": height 8.57, standoff -2.97, extent 19.05,-3.81 21.59,1.27
3D body "Stripline_2row.stp": height 8.57, standoff -2.97, extent 16.51,-3.81 19.05,1.27
3D body "Stripline_2row.stp": height 8.57, standoff -2.97, extent 11.43,-3.81 13.97,1.27
3D body "Stripline_2row.stp": height 8.57, standoff -2.97, extent 8.89,-3.81 11.43,1.27
3D body "Stripline_2row.stp": height 8.57, standoff -2.97, extent 3.81,-3.81 6.35,1.27
3D body "Stripline_2row.stp": height 8.57, standoff -2.97, extent -1.27,-3.81 1.27,1.27
3D body "Stripline_2row.stp": height 8.57, standoff -2.97, extent 1.27,-3.81 3.81,1.27
3D body "Stripline_2row.stp": height 8.57, standoff -2.97, extent 6.35,-3.81 8.89,1.27
3D body "Stripline_2row.stp": height 8.57, standoff -2.97, extent 13.97,-3.81 16.51,1.27
3D body "Stripline_2row.stp": height 8.57, standoff -2.97, extent 21.59,-3.81 24.13,1.27

## PLUG_THMD_STRIP20 - 2rows-90° [mm]
pads (20):
  rect 1.6x1.6 / inner round 1.524 / far side rect 1.6x1.6 hole 1 paste+0 mask+0: 1(0,0)
  round 1.6 / inner round 1.524 / far side round 1.6 hole 1 paste+0 mask+0: 2(0,-2.54) 3(2.54,0) 4(2.54,-2.54) 5(5.08,0) 6(5.08,-2.54) 7(7.62,0) 8(7.62,-2.54) 9(10.16,0) 10(10.16,-2.54) 11(12.7,0) 12(12.7,-2.54) 13(15.24,0) 14(15.24,-2.54) 15(17.78,0) 16(17.78,-2.54) 17(20.32,0) 18(20.32,-2.54) 19(22.86,0) 20(22.86,-2.54)
Top Overlay:
  lines w0.203: -1.27,-6.731 24.13,-6.731 24.13,1.016 -1.27,1.016 -1.27,-6.731
Mechanical 13:
  lines w0.2: -1.27,-6.731 -1.27,-3.937 24.13,-3.937 24.13,-6.731 -1.27,-6.731
  text "1" at -2.156,-0.448 h0.95
Mechanical 15:
  lines w0.203: -1.27,-12.548 24.13,-12.421 24.13,1.016 -1.27,1.016 -1.27,-12.548
3D body "Stripline_2row90_deg.stp": height 5.14, standoff -2.94, extent 21.59,-12.57 24.13,0.33
3D body "Stripline_2row90_deg.stp": height 5.14, standoff -2.94, extent 16.51,-12.57 19.05,0.33
3D body "Stripline_2row90_deg.stp": height 5.14, standoff -2.94, extent 13.97,-12.57 16.51,0.33
3D body "Stripline_2row90_deg.stp": height 5.14, standoff -2.94, extent 11.43,-12.57 13.97,0.33
3D body "Stripline_2row90_deg.stp": height 5.14, standoff -2.94, extent 6.35,-12.57 8.89,0.33
3D body "Stripline_2row90_deg.stp": height 5.14, standoff -2.94, extent -1.27,-12.57 1.27,0.33
3D body "Stripline_2row90_deg.stp": height 5.14, standoff -2.94, extent 1.27,-12.57 3.81,0.33
3D body "Stripline_2row90_deg.stp": height 5.14, standoff -2.94, extent 3.81,-12.57 6.35,0.33
3D body "Stripline_2row90_deg.stp": height 5.14, standoff -2.94, extent 8.89,-12.57 11.43,0.33
3D body "Stripline_2row90_deg.stp": height 5.14, standoff -2.94, extent 19.05,-12.57 21.59,0.33

## PLUG_THMD_STRIP20 - 90° [mm]
pads (20):
  rect 1.6x1.6 / inner round 1.524 / far side rect 1.6x1.6 hole 1 paste+0 mask+0: 1(0,0)
  round 1.6 / inner round 1.524 / far side round 1.6 hole 1 paste+0 mask+0: 2(2.54,0) 3(5.08,0) 4(7.62,0) 5(10.16,0) 6(12.7,0) 7(15.24,0) 8(17.78,0) 9(20.32,0) 10(22.86,0) 11(25.4,0) 12(27.94,0) 13(30.48,0) 14(33.02,0) 15(35.56,0) 16(38.1,0) 17(40.64,0) 18(43.18,0) 19(45.72,0) 20(48.26,0)
Top Overlay:
  lines w0.203: -1.27,1.27 -1.27,-1.27 ; 3.81,-1.27 -1.27,-1.27 ; -1.27,-1.27 49.53,-1.27 49.53,4.191 -1.27,4.191 -1.27,-1.27
Mechanical 13:
  lines w0.2: -1.27,1.397 49.53,1.397 49.53,4.191 -1.27,4.191 -1.27,1.397
  text "1" at -2.156,-0.448 h0.95
Mechanical 15:
  lines w0.203: -1.27,-1.27 49.53,-1.27 49.53,10.033 -1.27,10.033 -1.27,-1.27
3D body "Stripline_1row90_deg.stp": height 2.54, standoff -3, extent 41.91,-0.354 44.45,10.006
3D body "Stripline_1row90_deg.stp": height 2.54, standoff -3, extent 31.75,-0.354 34.29,10.006
3D body "Stripline_1row90_deg.stp": height 2.54, standoff -3, extent 29.21,-0.354 31.75,10.006
3D body "Stripline_1row90_deg.stp": height 2.54, standoff -3, extent 26.67,-0.354 29.21,10.006
3D body "Stripline_1row90_deg.stp": height 2.54, standoff -3, extent 21.59,-0.354 24.13,10.006
3D body "Stripline_1row90_deg.stp": height 2.54, standoff -3, extent 19.05,-0.354 21.59,10.006
3D body "Stripline_1row90_deg.stp": height 2.54, standoff -3, extent -1.27,-0.354 1.27,10.006
3D body "Stripline_1row90_deg.stp": height 2.54, standoff -3, extent 1.27,-0.354 3.81,10.006
3D body "Stripline_1row90_deg.stp": height 2.54, standoff -3, extent 3.81,-0.354 6.35,10.006
3D body "Stripline_1row90_deg.stp": height 2.54, standoff -3, extent 6.35,-0.354 8.89,10.006
3D body "Stripline_1row90_deg.stp": height 2.54, standoff -3, extent 8.89,-0.354 11.43,10.006
3D body "Stripline_1row90_deg.stp": height 2.54, standoff -3, extent 11.43,-0.354 13.97,10.006
3D body "Stripline_1row90_deg.stp": height 2.54, standoff -3, extent 13.97,-0.354 16.51,10.006
3D body "Stripline_1row90_deg.stp": height 2.54, standoff -3, extent 16.51,-0.354 19.05,10.006
3D body "Stripline_1row90_deg.stp": height 2.54, standoff -3, extent 24.13,-0.354 26.67,10.006
3D body "Stripline_1row90_deg.stp": height 2.54, standoff -3, extent 34.29,-0.354 36.83,10.006
3D body "Stripline_1row90_deg.stp": height 2.54, standoff -3, extent 36.83,-0.354 39.37,10.006
3D body "Stripline_1row90_deg.stp": height 2.54, standoff -3, extent 39.37,-0.354 41.91,10.006
3D body "Stripline_1row90_deg.stp": height 2.54, standoff -3, extent 44.45,-0.354 46.99,10.006
3D body "Stripline_1row90_deg.stp": height 2.54, standoff -3, extent 46.99,-0.354 49.53,10.006